# EAGLE library part IRF7509 (library paparazzi3)
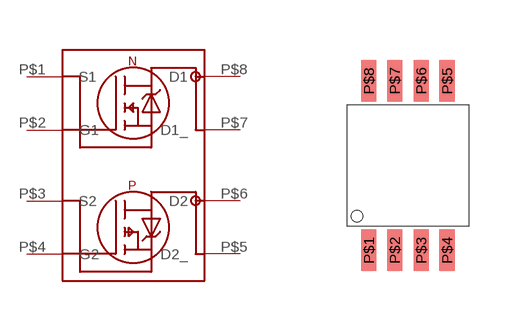
[diagram p25: symbol with the pads of MICRO8; footprint MICRO8]

Designator prefix -

## IRF7509  [MICRO8]
P$1  S1
P$2  G1
P$3  S2
P$4  G2
P$5  D2_
P$6  D2
P$7  D1_
P$8  D1

## Footprint MICRO8 (pad centres in mm)
smd 0.381 x 1.041: P$1 -0.978,-2.121; P$2 -0.33,-2.121; P$3 0.33,-2.121; P$4 0.978,-2.121; P$5 0.978,2.121; P$6 0.33,2.121; P$7 -0.33,2.121; P$8 -0.978,2.121